# Altium schematic symbol library TS170R1H105MSBFA0R.SchLib: 1 symbol
Pins are listed as number, name and electrical type; pins without a type are passive.

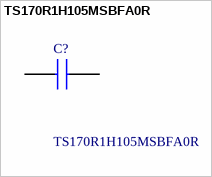
[diagram p0: symbol TS170R1H105MSBFA0R]

## TS170R1H105MSBFA0R
designator C?
1uF 20% 50V Y5V P:2.54mm Radial Ceramic Capacitor 4.2 x 3.8 x 3mm -25 to +85C; Manufacturer_Name: Suntan Technology; Geometry.Height: 6.3mm; Manufacturer_Part_Number: TS170R1H105MSBFA0R; Mouser Part Number: *; Mouser Price/Stock: *; Arrow Part Number: *; Arrow Price/Stock: *; Datasheet Link: https://www.suntan.com.hk/pdf/Ceramic-Capacitors/TS17.pdf
footprint TS170R1H105MSBFA0R
pins: 1, 2